# Altium schematic symbol library diode_10.Schlib: 1 symbol
Pins are listed as number, name and electrical type; pins without a type are passive.

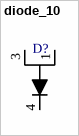
[diagram p0: symbol diode_10]

## diode_10
designator D?  (value not drawn)
Standard Diode, Dual Anode
pins: 1, 3, 4